# Altium schematic symbol library DIODO ZENER.Schlib: 1 symbol
Pins are listed as number, name and electrical type; pins without a type are passive.

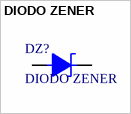
[diagram p0: symbol DIODO ZENER]

## DIODO ZENER
designator DZ?
pins: 1, 2